# Altium footprint library F429.PcbLib: 61 footprints (part 2 of 4)
Each footprint in its own frame and in the unit in brackets; x right, y up, seen from the top. Pads: shape width x height; smd on the part's side, far side on the other; paste and mask are expansions set on the pad; w line width, h text height; cw(c..) or ccw(c..) is an arc to the next point about the centre after c.
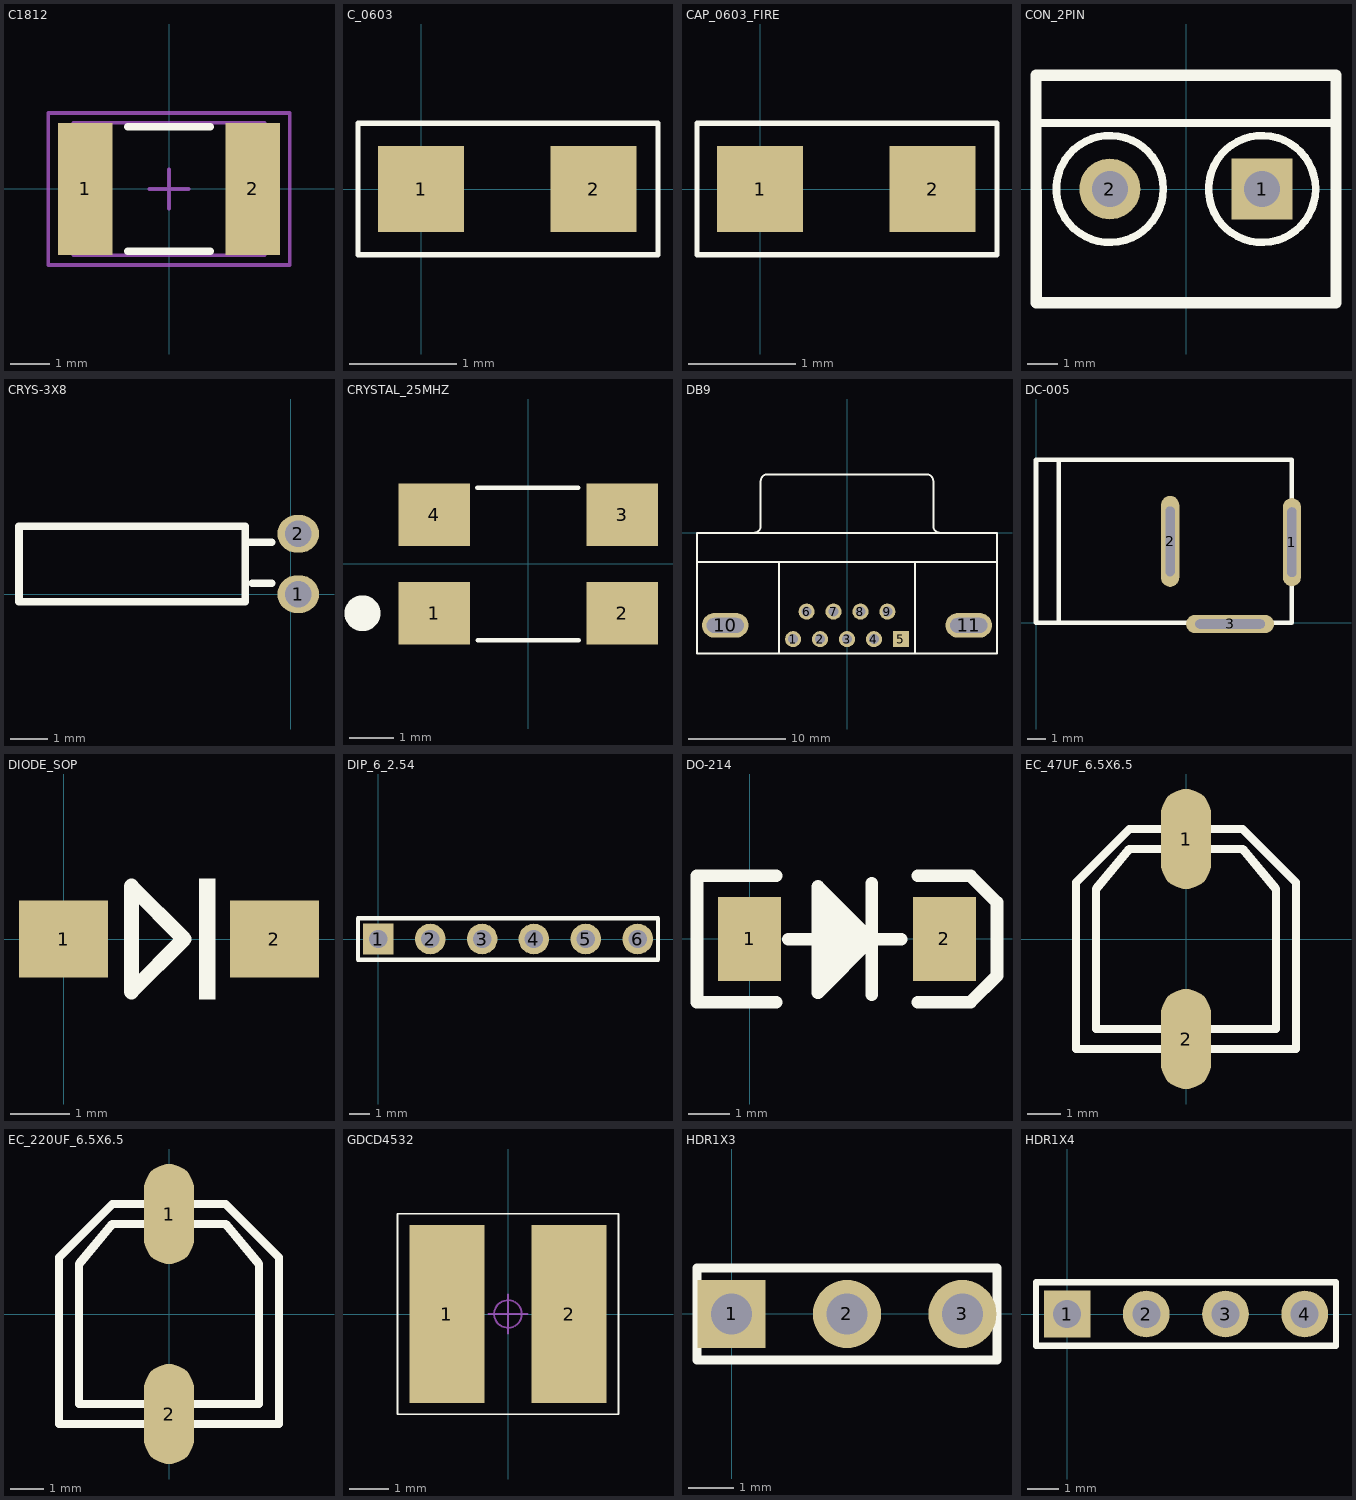
[diagram p1: the footprints below, top view; thin cyan lines are the x and y axes]

## C1812 [mm]
pads (2):
  rect 1.4x3.4 smd: 1(-2.15,0) 2(2.15,0)
Top Overlay:
  lines w0.2: -1.05,-1.6 1.05,-1.6 ; -1.05,1.6 1.05,1.6
Mechanical 16:
  lines w0.1: -0.5,0 0.5,0 ; 0,-0.5 0,0.5 ; -3.1,-1.95 3.1,-1.95 3.1,1.95 -3.1,1.95 -3.1,-1.95 ; -2.45,-1.7 2.45,-1.7 2.45,1.7 -2.45,1.7 -2.45,-1.7

## C_0603 [mm]
pads (2):
  rect 0.8x0.8 smd: 1(0,0) 2(1.6,0)
Top Overlay:
  lines w0.051: -0.584,-0.61 2.197,-0.61 2.197,0.61 -0.584,0.61 -0.584,-0.61

## CAP_0603_FIRE [mm]
pads (2):
  rect 0.8x0.8 smd: 1(0,0) 2(1.6,0)
Top Overlay:
  lines w0.051: -0.584,-0.61 2.197,-0.61 2.197,0.61 -0.584,0.61 -0.584,-0.61

## CON_2PIN [mil]
pads (2):
  rect 80x80 hole 47.24: 1(100,0)
  round 80 hole 47.24: 2(-100,0)
Top Overlay:
  circle w10: c100,0 r70.21
  circle w10: c-100,0 r70.21
  lines w10: -197,86.61 197,86.61
  lines w15: -197,149.61 197,149.61 197,-149.61 -196.85,-149.61 -197,149.61

## CRYS-3X8 [mm]
pads (2):
  oval 1.1x1 hole 0.7: 1(0.199,-0.003) 2(0.199,1.597)
Top Overlay:
  lines w0.2: -1.09,1.375 -0.5,1.375 ; -1.022,0.292 -0.5,0.292 ; -7.2,-0.2 -1.2,-0.2 -1.2,1.8 -7.2,1.8 -7.2,-0.2

## CRYSTAL_25MHZ [mm]
pads (4):
  rect 1.6x1.4 smd: 1(-2.1,-1.1) 2(2.1,-1.1) 3(2.1,1.1) 4(-2.1,1.1)
Top Overlay:
  circle w0.6: c-3.699,-1.1 r0.1
  lines w0.102: -1.134,1.7 1.122,1.7 ; -1.122,-1.7 1.134,-1.7

## DB9 [mil]
pads (11):
  round 65 hole 40: 1(-218.11,-429.92) 2(-109.06,-429.92) 3(0,-429.92) 4(109.06,-429.92) 6(-163.58,-318.11) 7(-54.53,-318.11) 8(54.53,-318.11) 9(163.58,-318.11)
  rrect0% 65x65 all layers, no hole: 5(218.11,-429.92)
  oval 187.4x100 hole 60 slot 150 at 0 deg: 10(-491.93,-374.02) 11(491.93,-374.02)
Top Overlay:
  lines w7.87: -606.3,-118.11 606.3,-118.11 ; -376.38,0.2 ccw(c-376.38,27.56) -349.02,27.56 -348.82,208.86 cw(c-321.46,208.86) -321.46,236.22 321.46,236.22 cw(c321.46,208.86) 348.82,208.86 349.02,27.56 ccw(c376.38,27.56) 376.38,0.2 ; -275.59,-488.19 -275.59,-118.11 ; 275.59,-488.19 275.59,-118.11 ; -606.3,-488.19 606.3,-488.19 606.3,0 -606.3,0 -606.3,-488.19

## DC-005 [mm]
pads (3):
  oval 1x4.826 hole 0.5 slot 3.81 at 90 deg: 1(14,4.399)
  oval 1x4.978 hole 0.5 slot 3.81 at 90 deg: 2(7.341,4.445)
  oval 4.826x1 hole 0.5 slot 3.81 at 0 deg: 3(10.617,-0.076)
Top Overlay:
  lines w0.254: 1.245,0.051 1.245,8.9 ; 0,0 0,8.9 14,8.9 14,0 0,0

## DIODE_SOP [mm]
pads (2):
  rect 1.5x1.3 smd: 1(0,0) 2(3.556,0)
Top Overlay:
  region: 2.286,-1.016 2.559,-1.016 2.559,1.016 2.286,1.016
  lines w0.254: 1.143,-0.889 2.032,0 1.143,0.889 1.143,-0.889

## DIP_6_2.54 [mm]
height 1.2
pads (6):
  rect 1.5x1.5 hole 0.9: 1(0,0)
  round 1.5 hole 0.9: 2(2.54,0) 3(5.08,0) 4(7.62,0) 5(10.16,0) 6(12.7,0)
Top Overlay:
  lines w0.2: -1,-1.016 13.7,-1.016 13.7,1.016 -1,1.016 -1,-1.016

## DO-214 [mil]
pads (2):
  rect 60x80 smd: 1(0,0) 2(185,0)
Top Overlay:
  region: 64.92,-25.05 91,-25.05 91,22.87 64.92,22.87
  lines w12: 25,-60 -50,-60 -50,60 25,60 ; 36.92,-0.13 143.92,-0.13 ; 64.92,33.87 100.29,-1.51 66.66,-35.13 ; 115.92,-53.13 115.92,52.87 ; 160,-60 209.92,-60 235,-34.92 235,34.87 209.87,60 160,60 ; 64.92,-51.13 115.92,-0.13 115.92,-1.13 64.92,49.87 64.92,-51.13

## EC_47UF_6.5X6.5 [mm]
pads (2):
  oval 1.5x3 smd: 1(0,3) 2(0,-3)
Top Overlay:
  lines w0.254: -3.3,-3.3 3.3,-3.3 3.3,1.7 1.7,3.3 -1.7,3.3 -3.3,1.7 -3.3,-3.3 ; -2.7,-2.7 2.7,-2.7 2.7,1.5 1.7,2.7 -1.7,2.7 -2.7,1.5 -2.7,-2.7

## EC_220UF_6.5X6.5 [mm]
pads (2):
  oval 1.5x3 smd: 1(0,3) 2(0,-3)
Top Overlay:
  lines w0.254: -3.3,-3.3 3.3,-3.3 3.3,1.7 1.7,3.3 -1.7,3.3 -3.3,1.7 -3.3,-3.3 ; -2.7,-2.7 2.7,-2.7 2.7,1.5 1.7,2.7 -1.7,2.7 -2.7,1.5 -2.7,-2.7

## GDCD4532 [mm]
height 5.3
pads (2):
  rect 1.9x4.5 smd: 1(-1.55,0) 2(1.55,0)
Top Overlay:
  lines w0.05: -2.794,-2.54 2.794,-2.54 2.794,2.54 -2.794,2.54 -2.794,-2.54
Mechanical 16:
  circle w0.05: c0,0 r0.35
  lines w0.05: -0.5,0 0.5,0 ; 0,-0.5 0,0.5

## HDR1X3 [mm]
height 1.2
pads (3):
  rect 1.5x1.5 hole 0.9: 1(0,0)
  round 1.5 hole 0.9: 2(2.54,0) 3(5.08,0)
Top Overlay:
  lines w0.2: -0.762,-1.016 5.842,-1.016 5.842,1.016 -0.762,1.016 -0.762,-1.016

## HDR1X4 [mm]
height 1.2
pads (4):
  rect 1.5x1.5 hole 0.9: 1(0,0)
  round 1.5 hole 0.9: 2(2.54,0) 3(5.08,0) 4(7.62,0)
Top Overlay:
  lines w0.2: -1,-1.016 8.625,-1.016 8.625,1.016 -1,1.016 -1,-1.016